# Altium schematic symbol library XT30U-F.Schlib: 1 symbol
Pins are listed as number, name and electrical type; pins without a type are passive.

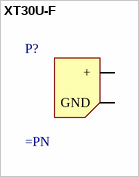
[diagram p0: symbol XT30U-F]

## XT30U-F
designator P?
pins: 1 +, 2 GND